# Altium footprint library Components.PcbLib: 11 footprints
Each footprint in its own frame and in the unit in brackets; x right, y up, seen from the top. Pads: shape width x height; smd on the part's side, far side on the other; paste and mask are expansions set on the pad; w line width, h text height; cw(c..) or ccw(c..) is an arc to the next point about the centre after c.
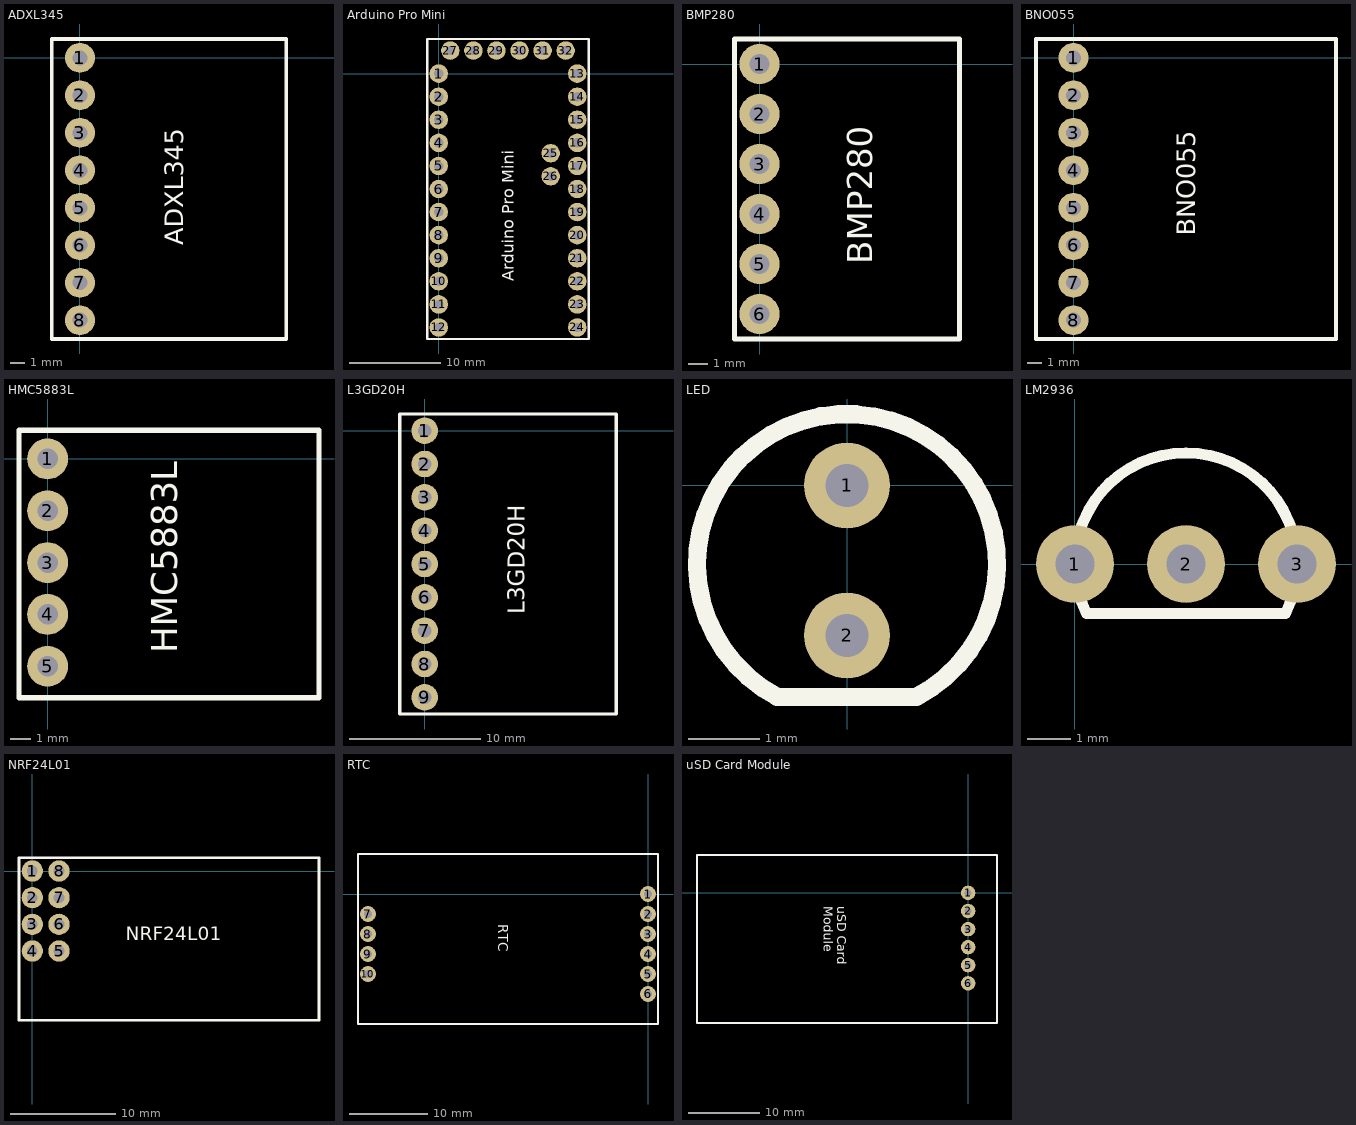
[diagram p0: the footprints below, top view; thin cyan lines are the x and y axes]

## ADXL345 [mil]
pads (8):
  round 80 hole 40: 1(0,0) 2(0,-100) 3(0,-200) 4(0,-300) 5(0,-400) 6(0,-500) 7(0,-600) 8(0,-700)
Top Overlay:
  lines w10: -75,-750 -75,50 550,50 550,-750 -75,-750
  text "ADXL345" at 275,-500 h50

## Arduino Pro Mini [mil]
pads (32):
  round 80 hole 40: 1(0,0) 2(0,-100) 3(0,-200) 4(0,-300) 5(0,-400) 6(0,-500) 7(0,-600) 8(0,-700) 9(0,-800) 10(0,-900) 11(0,-1000) 12(0,-1100) 13(600,0) 14(600,-100) 15(600,-200) 16(600,-300) 17(600,-400) 18(600,-500) 19(600,-600) 20(600,-700) 21(600,-800) 22(600,-900) 23(600,-1000) 24(600,-1100) 25(485,-345) 26(485,-445) 27(50,100) 28(150,100) 29(250,100) 30(350,100) 31(450,100) 32(550,100)
Top Overlay:
  lines w10: -50,-1150 650,-1150 650,150 -50,150 -50,-1150
  text "Arduino Pro Mini" at 325,-900 h50

## BMP280 [mil]
pads (6):
  round 80 hole 40: 1(0,0) 2(0,-100) 3(0,-200) 4(0,-300) 5(0,-400) 6(0,-500)
Top Overlay:
  lines w10: -50,-550 400,-550 400,50 -50,50 -50,-550
  text "BMP280" at 225,-400 h50

## BNO055 [mil]
pads (8):
  round 80 hole 40: 1(0,0) 2(0,-100) 3(0,-200) 4(0,-300) 5(0,-400) 6(0,-500) 7(0,-600) 8(0,-700)
Top Overlay:
  lines w10: -100,-750 700,-750 700,50 -100,50 -100,-750
  text "BNO055" at 325,-475 h50

## HMC5883L [mm]
pads (5):
  round 2 hole 1: 1(0,0) 2(0,-2.54) 3(0,-5.08) 4(0,-7.62) 5(0,-10.16)
Top Overlay:
  lines w0.254: -1.4,-11.7 13.3,-11.7 13.3,1.4 -1.4,1.4 -1.4,-11.7
  text "HMC5883L" at 6.35,-9.525 h1.27

## L3GD20H [mil]
pads (9):
  round 80 hole 40: 1(0,0) 2(0,-100) 3(0,-200) 4(0,-300) 5(0,-400) 6(0,-500) 7(0,-600) 8(0,-700) 9(0,-800)
Top Overlay:
  lines w10: -75,-850 575,-850 575,50 -75,50 -75,-850
  text "L3GD20H" at 300,-550 h50

## LED [mm]
pads (2):
  round 1.2 hole 0.6: 1(0,0) 2(0,-2.1)
Top Overlay:
  lines w0.254: -0.978,-2.958 cw(c0,-1.1) 0.971,-2.962 -0.978,-2.958

## LM2936 [mil]
pads (3):
  round 70 hole 35: 1(0,0) 2(100,0) 3(200,0)
Top Overlay:
  lines w10: 10.56,-44.72 cw(c100,0) 189.44,-44.72 10.56,-44.72

## NRF24L01 [mil]
pads (8):
  round 80 hole 40: 1(0,0) 2(0,-100) 3(0,-200) 4(0,-300) 5(100,-300) 6(100,-200) 7(100,-100) 8(100,0)
Top Overlay:
  lines w10: -50,-560 1075,-560 1075,50 -50,50 -50,-560
  text "NRF24L01" at 350,-260 h50

## RTC [mil]
pads (10):
  round 80 hole 40: 1(0,0) 2(0,-100) 3(0,-200) 4(0,-300) 5(0,-400) 6(0,-500) 7(-1400,-100) 8(-1400,-200) 9(-1400,-300) 10(-1400,-400)
Top Overlay:
  lines w10: -1450,-650 -1450,200 50,200 50,-650 -1450,-650
  text "RTC" at -750,-150 h50

## uSD Card Module [mil]
pads (6):
  round 80 hole 40: 1(0,0) 2(0,-100) 3(0,-200) 4(0,-300) 5(0,-400) 6(0,-500)
Top Overlay:
  lines w10: -1500,-720 -1500,210 160,210 160,-720 -1500,-720
  text "uSD Card / Module" at -800,-75 h50